# Altium schematic symbol library Schlib1.SchLib: 16 symbols
Pins are listed as number, name and electrical type; pins without a type are passive.

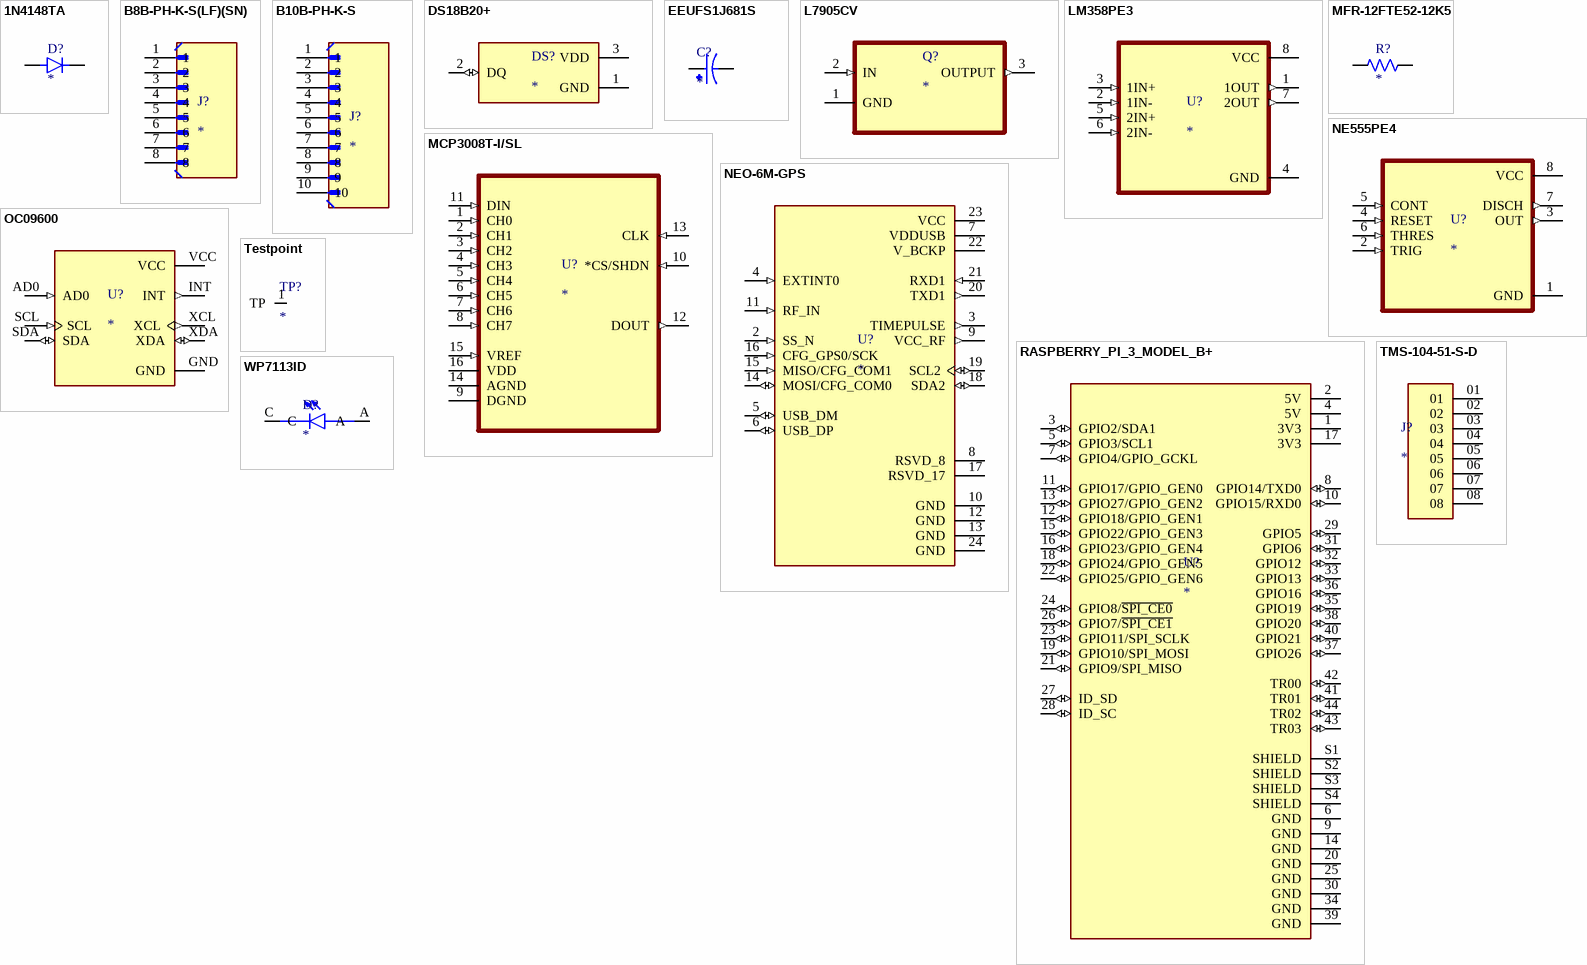
[diagram p0: symbols 1N4148TA to WP7113ID]

## 1N4148TA
designator D?
Diode Standard 100 V 200mA Through Hole DO-35; MF: ON Semiconductor; MP: 1N4148TA; SnapEDA_Link: https://www.snapeda.com/parts/1N4148TA/Onsemi/view-part/?ref=snap; Package: AXIAL LEAD-2 ON Semiconductor; Value: *; Check_prices: https://www.snapeda.com/parts/1N4148TA/Onsemi/view-part/?ref=eda
footprint DIOAD753W49L380D172B
pins: A, K

## B8B-PH-K-S(LF)(SN)
designator J?
Connector Header Through Hole 8 position 0.079 (2.00mm); MF: JST Sales; MP: B8B-PH-K-S(LF)(SN); SnapEDA_Link: https://www.snapeda.com/parts/B8B-PH-K-S(LF)(SN)/JST+Sales+America+Inc./view-part/?ref=snap; Package: None; Value: *; Check_prices: https://www.snapeda.com/parts/B8B-PH-K-S(LF)(SN)/JST+Sales+America+Inc./view-part/?ref=eda
footprint JST_B8B-PH-K-S(LF)(SN)
pins: 1, 2, 3, 4, 5, 6, 7, 8

## B10B-PH-K-S
designator J?
2.0 mm pitch/Disconnectable Crimp style connectors; MF: JST Sales America Inc.; MP: B10B-PH-K-S; SnapEDA_Link: https://www.snapeda.com/parts/B10B-PH-K-S/JST/view-part/?ref=snap; Package: None; Value: *; Check_prices: https://www.snapeda.com/parts/B10B-PH-K-S/JST/view-part/?ref=eda
footprint JST_B10B-PH-K-S
pins: 1, 2, 3, 4, 5, 6, 7, 8, 9, 10

## DS18B20+
designator DS?
Programmable Resolution 1-Wire Digital Thermometer; MF: Analog Devices; MP: DS18B20+; SnapEDA_Link: https://www.snapeda.com/parts/DS18B20+/Analog+Devices/view-part/?ref=snap; Package: TO-226-3 Maxim; Value: *; Check_prices: https://www.snapeda.com/parts/DS18B20+/Analog+Devices/view-part/?ref=eda
footprint IC_DS18B20+
pins: 1 GND (power), 2 DQ (io), 3 VDD (power)

## EEUFS1J681S
designator C?
CAP ALUM 680UF 20% 63V THRU HOLE; MP: EEU-FS1J681S; MF: Panasonic Electronic Components; Package: RADIAL-2 Panasonic; Availability: In Stock; SnapEDA_Link: https://www.snapeda.com/parts/EEU-FS1J681S/Panasonic/view-part/5562022/?ref=snap; Price: None; Check_prices: https://www.snapeda.com/parts/EEU-FS1J681S/Panasonic/view-part/5562022/?ref=eda; Value: *
footprint CAPPRD750W80D1600H2000
pins: N, P

## L7905CV
designator Q?
Linear Voltage Regulator IC Negative Fixed 1 Output 1.5A TO-220; MF: STMicroelectronics; MP: L7905CV; SnapEDA_Link: https://www.snapeda.com/parts/L7905CV/STMicroelectronics/view-part/?ref=snap; Package: TO-220-3 STMicroelectronics; Value: *; Check_prices: https://www.snapeda.com/parts/L7905CV/STMicroelectronics/view-part/?ref=eda
footprint TO254P450X1020X1935-3P
pins: 1 GND, 2 IN (in), 3 OUTPUT (out)

## LM358PE3
designator U?
Dual, 30-V, 700-kHz operational amplifier; MF: Texas Instruments; MP: LM358PE3; SnapEDA_Link: https://www.snapeda.com/parts/LM358PE3/Texas+Instruments/view-part/?ref=snap; Package: PDIP-8 Texas; Value: *; Check_prices: https://www.snapeda.com/parts/LM358PE3/Texas+Instruments/view-part/?ref=eda
footprint DIP794W45P254L959H508Q8 - duplicate
pins: 1 1OUT (out), 2 1IN- (in), 3 1IN+ (in), 4 GND (power), 5 2IN+ (in), 6 2IN- (in), 7 2OUT (out), 8 VCC (power)

## MCP3008T-I/SL
designator U?
10-bit ADC, SPI, 8-channel16 SOIC .150in T/R | Microchip Technology Inc. MCP3008T-I/SL; SnapEDA_Link: https://www.snapeda.com/parts/MCP3008T-I/SL/Microchip/view-part/?ref=snap; Package: SOIC-16 Microchip; Value: *; MF: Microchip Technology; MP: MCP3008T-I/SL; Check_prices: https://www.snapeda.com/parts/MCP3008T-I/SL/Microchip/view-part/?ref=eda
footprint SOIC127P600X175-16N
pins: 1 CH0 (in), 2 CH1 (in), 3 CH2 (in), 4 CH3 (in), 5 CH4 (in), 6 CH5 (in), 7 CH6 (in), 8 CH7 (in), 9 DGND, 10 *CS/SHDN (in), 11 DIN (in), 12 DOUT (out), 13 CLK (in), 14 AGND, 15 VREF (in), 16 VDD (power)

## MFR-12FTE52-12K5
designator R?
Metal Film Resistors - Through Hole; MF: YAGEO; MP: MFR-12FTE52-12K5; SnapEDA_Link: https://www.snapeda.com/parts/MFR-12FTE52-12K5/Yageo/view-part/?ref=snap; Package: RADIAL-2 Yageo; Value: *; Check_prices: https://www.snapeda.com/parts/MFR-12FTE52-12K5/Yageo/view-part/?ref=eda
footprint RESAD730W45L370D210
pins: 1, 2

## NE555PE4
designator U?
Single Precision Timer; MF: Texas Instruments; MP: NE555PE4; SnapEDA_Link: https://www.snapeda.com/parts/NE555PE4/Texas+Instruments/view-part/?ref=snap; Package: PDIP-8 Texas; Value: *; Check_prices: https://www.snapeda.com/parts/NE555PE4/Texas+Instruments/view-part/?ref=eda
footprint DIP794W45P254L959H508Q8
pins: 1 GND (power), 2 TRIG (in), 3 OUT (out), 4 RESET (in), 5 CONT (in), 6 THRES (in), 7 DISCH (out), 8 VCC (power)

## NEO-6M-GPS
designator U?
GPS Development Tools SparkFun GNSS-RTK Dead Reckoning Breakout - ZED-F9K (Qwiic); MP: NEO-6M-GPS; MF: u-blox; SnapEDA_Link: https://www.snapeda.com/parts/NEO-6M-GPS/u-blox/view-part/?ref=snap; Availability: Not in stock; Price: None; Check_prices: https://www.snapeda.com/parts/NEO-6M-GPS/u-blox/view-part/?ref=eda; Value: *; Package: None
footprint XCVR_NEO-6M-GPS
pins: 2 SS_N (in), 3 TIMEPULSE (out), 4 EXTINT0 (in), 5 USB_DM (io), 6 USB_DP (io), 7 VDDUSB (power), 8 RSVD_8, 9 VCC_RF (out), 10 GND (power), 11 RF_IN (in), 12 GND (power), 13 GND (power), 14 MOSI/CFG_COM0 (io), 15 MISO/CFG_COM1 (in), 16 CFG_GPS0/SCK (in), 17 RSVD_17, 18 SDA2 (io), 19 SCL2 (io), 20 TXD1 (out), 21 RXD1 (in), 22 V_BCKP (power), 23 VCC (power), 24 GND (power)

## OC09600
designator U?
GY-521 6 DOF MPU-6050 Module 3 Axis Accelerometer Gyroscope Module for Arduino; MF: YKS; MP: OC09600; SnapEDA_Link: https://www.snapeda.com/parts/OC09600/YKS/view-part/?ref=snap; Package: None; Value: *; Check_prices: https://www.snapeda.com/parts/OC09600/YKS/view-part/?ref=eda
footprint MODULE_OC09600
pins: AD0 (in), GND (power), INT (out), SCL (in), SDA (io), VCC (power), XCL (out), XDA (io)

## RASPBERRY_PI_3_MODEL_B+
designator U?
Case Plastic, ABS Black Hand Held, Split Sides 3.520 L x 2.740 W (89.41mm x 69.60mm) X 0.980 (24.89mm); MF: Raspberry Pi; MP: RASPBERRY PI 3 MODEL B+; Purchase-URL: https://pricing.snapeda.com/search/part/RASPBERRY PI 3 MODEL B+/?ref=eda; Check_prices: https://www.snapeda.com/parts/RASPBERRY%20PI%203%20MODEL%20B+/Raspberry+Pi/view-part/?ref=eda; SnapEDA_Link: https://www.snapeda.com/parts/RASPBERRY%20PI%203%20MODEL%20B+/Raspberry+Pi/view-part/?ref=snap; Price: None; Availability: In Stock; Package: Raspberry Pi; Value: *
footprint MODULE_RASPBERRY_PI_3_MODEL_B+
pins: 1 3V3 (power), 2 5V (power), 3 GPIO2/SDA1 (io), 4 5V (power), 5 GPIO3/SCL1 (io), 6 GND (power), 7 GPIO4/GPIO_GCKL (io), 8 GPIO14/TXD0 (io), 9 GND (power), 10 GPIO15/RXD0 (io), 11 GPIO17/GPIO_GEN0 (io), 12 GPIO18/GPIO_GEN1 (io), 13 GPIO27/GPIO_GEN2 (io), 14 GND (power), 15 GPIO22/GPIO_GEN3 (io), 16 GPIO23/GPIO_GEN4 (io), 17 3V3 (power), 18 GPIO24/GPIO_GEN5 (io), 19 GPIO10/SPI_MOSI (io), 20 GND (power), 21 GPIO9/SPI_MISO (io), 22 GPIO25/GPIO_GEN6 (io), 23 GPIO11/SPI_SCLK (io), 24 GPIO8/~{SPI_CE0} (io), 25 GND (power), 26 GPIO7/~{SPI_CE1} (io), 27 ID_SD (io), 28 ID_SC (io), 29 GPIO5 (io), 30 GND (power), 31 GPIO6 (io), 32 GPIO12 (io), 33 GPIO13 (io), 34 GND (power), 35 GPIO19 (io), 36 GPIO16 (io), 37 GPIO26 (io), 38 GPIO20 (io), 39 GND (power), 40 GPIO21 (io), 41 TR01 (io), 42 TR00 (io), 43 TR03 (io), 44 TR02 (io), S1 SHIELD (power), S2 SHIELD (power), S3 SHIELD (power), S4 SHIELD (power)

## Testpoint
designator TP?  (net tie, no BOM)
footprint Testpoint
footprint Testpoint SMD
pins: 1 TP

## TMS-104-51-S-D
designator J?
MP: TMS-104-51-S-D; Package: None; Price: None; Value: *; Availability: Unavailable
footprint SAMTEC_TMS-104-51-S-D
pins: 01, 02, 03, 04, 05, 06, 07, 08

## WP7113ID
designator D?
Red 617nm LED Indication - Discrete 2V Radial; MP: WP7113ID; MF: Kingbright; Price: None; Package: Radial Kingbright; Check_prices: https://www.snapeda.com/parts/WP7113ID/Kingbright/view-part/?ref=eda; Purchase-URL: https://pricing.snapeda.com/search/part/WP7113ID/?ref=eda; Availability: In Stock; Value: *; SnapEDA_Link: https://www.snapeda.com/parts/WP7113ID/Kingbright/view-part/?ref=snap
footprint LED_WP7113ID
pins: A, C